# EAGLE library part EPM1270F256I5N (library EPM1270_BGA)
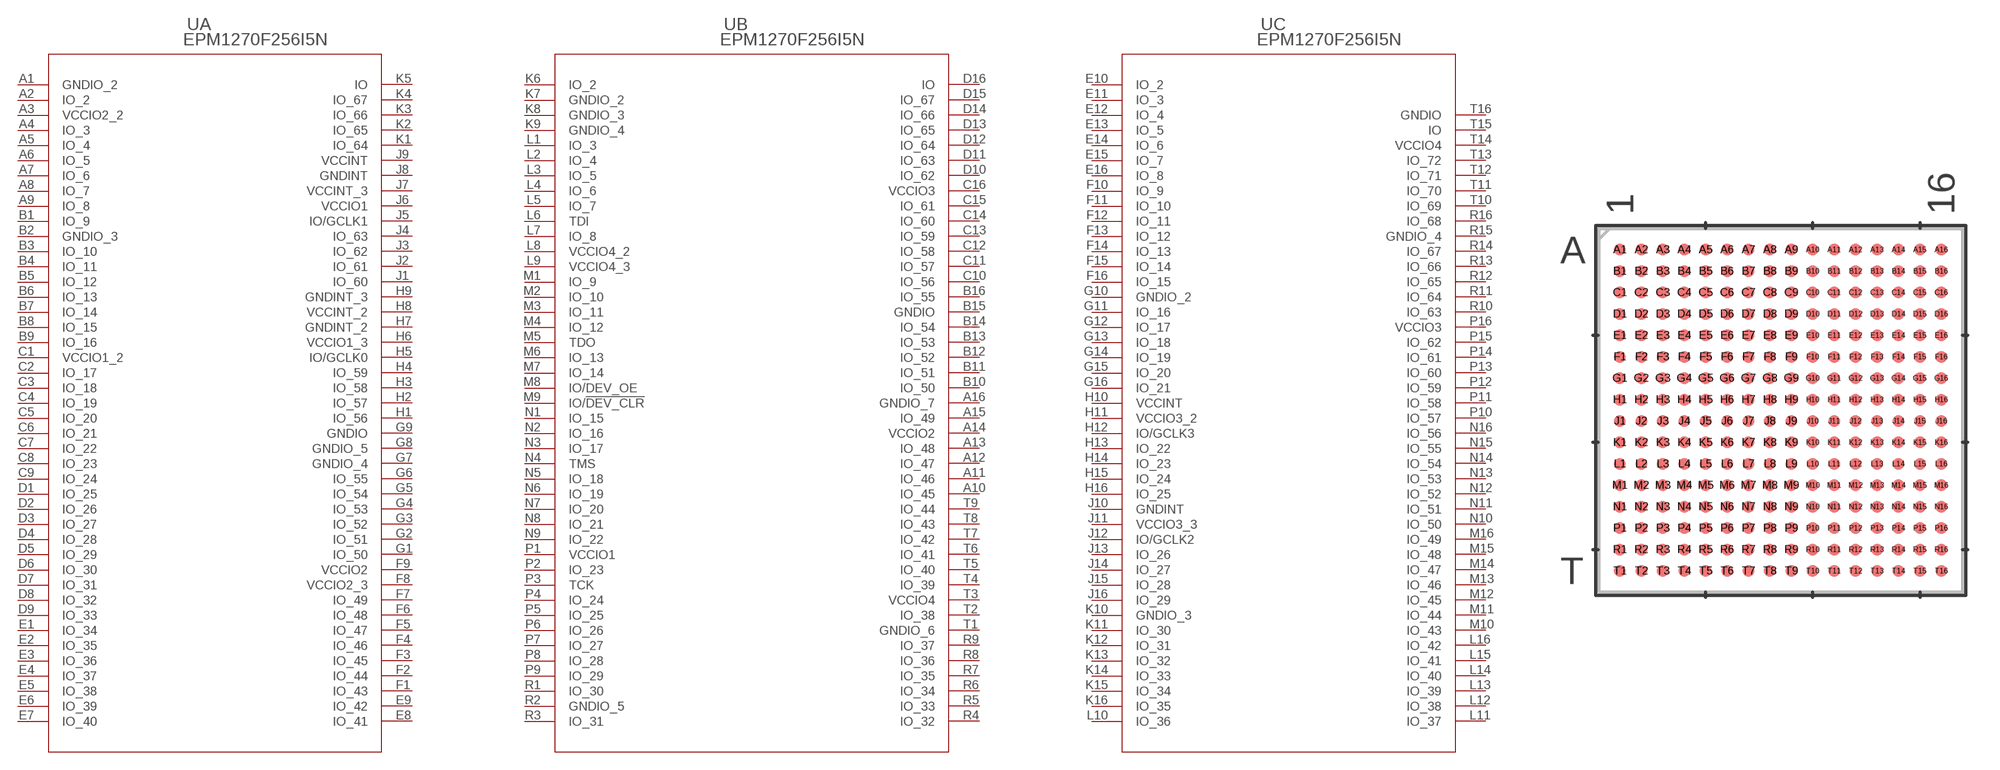
[diagram p0: symbol with the pads of 256-FBGA_ALR; footprint 256-FBGA_ALR]

Designator prefix U; gates A=EPM1270F256I5N_A B=EPM1270F256I5N_B C=EPM1270F256I5N_C

## EPM1270F256I5N (COPYRIGHT: Copyright (C) 2022 Ultra Librarian. All rights reserved.; MANUFACTURER_PART_NUMBER: EPM1270F256I5N; MFR_NAME: Intel)  [256-FBGA_ALR]
A1  A:GNDIO_2  pas
A2  A:IO_2  pas
A3  A:VCCIO2_2  pas
A4  A:IO_3  pas
A5  A:IO_4  pas
A6  A:IO_5  pas
A7  A:IO_6  pas
A8  A:IO_7  pas
A9  A:IO_8  pas
A10  B:IO_45  pas
A11  B:IO_46  pas
A12  B:IO_47  pas
A13  B:IO_48  pas
A14  B:VCCIO2  pas
A15  B:IO_49  pas
A16  B:GNDIO_7  pas
B1  A:IO_9  pas
B2  A:GNDIO_3  pas
B3  A:IO_10  pas
B4  A:IO_11  pas
B5  A:IO_12  pas
B6  A:IO_13  pas
B7  A:IO_14  pas
B8  A:IO_15  pas
B9  A:IO_16  pas
B10  B:IO_50  pas
B11  B:IO_51  pas
B12  B:IO_52  pas
B13  B:IO_53  pas
B14  B:IO_54  pas
B15  B:GNDIO  pas
B16  B:IO_55  pas
C1  A:VCCIO1_2  pas
C2  A:IO_17  pas
C3  A:IO_18  pas
C4  A:IO_19  pas
C5  A:IO_20  pas
C6  A:IO_21  pas
C7  A:IO_22  pas
C8  A:IO_23  pas
C9  A:IO_24  pas
C10  B:IO_56  pas
C11  B:IO_57  pas
C12  B:IO_58  pas
C13  B:IO_59  pas
C14  B:IO_60  pas
C15  B:IO_61  pas
C16  B:VCCIO3  pas
D1  A:IO_25  pas
D2  A:IO_26  pas
D3  A:IO_27  pas
D4  A:IO_28  pas
D5  A:IO_29  pas
D6  A:IO_30  pas
D7  A:IO_31  pas
D8  A:IO_32  pas
D9  A:IO_33  pas
D10  B:IO_62  pas
D11  B:IO_63  pas
D12  B:IO_64  pas
D13  B:IO_65  pas
D14  B:IO_66  pas
D15  B:IO_67  pas
D16  B:IO  pas
E1  A:IO_34  pas
E2  A:IO_35  pas
E3  A:IO_36  pas
E4  A:IO_37  pas
E5  A:IO_38  pas
E6  A:IO_39  pas
E7  A:IO_40  pas
E8  A:IO_41  pas
E9  A:IO_42  pas
E10  C:IO_2  pas
E11  C:IO_3  pas
E12  C:IO_4  pas
E13  C:IO_5  pas
E14  C:IO_6  pas
E15  C:IO_7  pas
E16  C:IO_8  pas
F1  A:IO_43  pas
F2  A:IO_44  pas
F3  A:IO_45  pas
F4  A:IO_46  pas
F5  A:IO_47  pas
F6  A:IO_48  pas
F7  A:IO_49  pas
F8  A:VCCIO2_3  pas
F9  A:VCCIO2  pas
F10  C:IO_9  pas
F11  C:IO_10  pas
F12  C:IO_11  pas
F13  C:IO_12  pas
F14  C:IO_13  pas
F15  C:IO_14  pas
F16  C:IO_15  pas
G1  A:IO_50  pas
G2  A:IO_51  pas
G3  A:IO_52  pas
G4  A:IO_53  pas
G5  A:IO_54  pas
G6  A:IO_55  pas
G7  A:GNDIO_4  pas
G8  A:GNDIO_5  pas
G9  A:GNDIO  pas
G10  C:GNDIO_2  pas
G11  C:IO_16  pas
G12  C:IO_17  pas
G13  C:IO_18  pas
G14  C:IO_19  pas
G15  C:IO_20  pas
G16  C:IO_21  pas
H1  A:IO_56  pas
H2  A:IO_57  pas
H3  A:IO_58  pas
H4  A:IO_59  pas
H5  A:IO/GCLK0  pas
H6  A:VCCIO1_3  pas
H7  A:GNDINT_2  pas
H8  A:VCCINT_2  pas
H9  A:GNDINT_3  pas
H10  C:VCCINT  pas
H11  C:VCCIO3_2  pas
H12  C:IO/GCLK3  pas
H13  C:IO_22  pas
H14  C:IO_23  pas
H15  C:IO_24  pas
H16  C:IO_25  pas
J1  A:IO_60  pas
J2  A:IO_61  pas
J3  A:IO_62  pas
J4  A:IO_63  pas
J5  A:IO/GCLK1  pas
J6  A:VCCIO1  pas
J7  A:VCCINT_3  pas
J8  A:GNDINT  pas
J9  A:VCCINT  pas
J10  C:GNDINT  pas
J11  C:VCCIO3_3  pas
J12  C:IO/GCLK2  pas
J13  C:IO_26  pas
J14  C:IO_27  pas
J15  C:IO_28  pas
J16  C:IO_29  pas
K1  A:IO_64  pas
K2  A:IO_65  pas
K3  A:IO_66  pas
K4  A:IO_67  pas
K5  A:IO  pas
K6  B:IO_2  pas
K7  B:GNDIO_2  pas
K8  B:GNDIO_3  pas
K9  B:GNDIO_4  pas
K10  C:GNDIO_3  pas
K11  C:IO_30  pas
K12  C:IO_31  pas
K13  C:IO_32  pas
K14  C:IO_33  pas
K15  C:IO_34  pas
K16  C:IO_35  pas
L1  B:IO_3  pas
L2  B:IO_4  pas
L3  B:IO_5  pas
L4  B:IO_6  pas
L5  B:IO_7  pas
L6  B:TDI  pas
L7  B:IO_8  pas
L8  B:VCCIO4_2  pas
L9  B:VCCIO4_3  pas
L10  C:IO_36  pas
L11  C:IO_37  pas
L12  C:IO_38  pas
L13  C:IO_39  pas
L14  C:IO_40  pas
L15  C:IO_41  pas
L16  C:IO_42  pas
M1  B:IO_9  pas
M2  B:IO_10  pas
M3  B:IO_11  pas
M4  B:IO_12  pas
M5  B:TDO  pas
M6  B:IO_13  pas
M7  B:IO_14  pas
M8  B:IO/DEV_OE  pas
M9  B:IO/!DEV_CLR  pas
M10  C:IO_43  pas
M11  C:IO_44  pas
M12  C:IO_45  pas
M13  C:IO_46  pas
M14  C:IO_47  pas
M15  C:IO_48  pas
M16  C:IO_49  pas
N1  B:IO_15  pas
N2  B:IO_16  pas
N3  B:IO_17  pas
N4  B:TMS  pas
N5  B:IO_18  pas
N6  B:IO_19  pas
N7  B:IO_20  pas
N8  B:IO_21  pas
N9  B:IO_22  pas
N10  C:IO_50  pas
N11  C:IO_51  pas
N12  C:IO_52  pas
N13  C:IO_53  pas
N14  C:IO_54  pas
N15  C:IO_55  pas
N16  C:IO_56  pas
P1  B:VCCIO1  pas
P2  B:IO_23  pas
P3  B:TCK  pas
P4  B:IO_24  pas
P5  B:IO_25  pas
P6  B:IO_26  pas
P7  B:IO_27  pas
P8  B:IO_28  pas
P9  B:IO_29  pas
P10  C:IO_57  pas
P11  C:IO_58  pas
P12  C:IO_59  pas
P13  C:IO_60  pas
P14  C:IO_61  pas
P15  C:IO_62  pas
P16  C:VCCIO3  pas
R1  B:IO_30  pas
R2  B:GNDIO_5  pas
R3  B:IO_31  pas
R4  B:IO_32  pas
R5  B:IO_33  pas
R6  B:IO_34  pas
R7  B:IO_35  pas
R8  B:IO_36  pas
R9  B:IO_37  pas
R10  C:IO_63  pas
R11  C:IO_64  pas
R12  C:IO_65  pas
R13  C:IO_66  pas
R14  C:IO_67  pas
R15  C:GNDIO_4  pas
R16  C:IO_68  pas
T1  B:GNDIO_6  pas
T2  B:IO_38  pas
T3  B:VCCIO4  pas
T4  B:IO_39  pas
T5  B:IO_40  pas
T6  B:IO_41  pas
T7  B:IO_42  pas
T8  B:IO_43  pas
T9  B:IO_44  pas
T10  C:IO_69  pas
T11  C:IO_70  pas
T12  C:IO_71  pas
T13  C:IO_72  pas
T14  C:VCCIO4  pas
T15  C:IO  pas
T16  C:GNDIO  pas

## Footprint 256-FBGA_ALR (pad centres in mm)
smd 0.559 x 0.559: A1 -7.5,7.5; A2 -6.5,7.5; A3 -5.5,7.5; A4 -4.5,7.5; A5 -3.5,7.5; A6 -2.5,7.5; A7 -1.5,7.5; A8 -0.5,7.5; A9 0.5,7.5; A10 1.5,7.5; A11 2.5,7.5; A12 3.5,7.5; A13 4.5,7.5; A14 5.5,7.5; A15 6.5,7.5; A16 7.5,7.5; B1 -7.5,6.5; B2 -6.5,6.5; B3 -5.5,6.5; B4 -4.5,6.5; B5 -3.5,6.5; B6 -2.5,6.5; B7 -1.5,6.5; B8 -0.5,6.5; B9 0.5,6.5; B10 1.5,6.5; B11 2.5,6.5; B12 3.5,6.5; B13 4.5,6.5; B14 5.5,6.5; B15 6.5,6.5; B16 7.5,6.5; C1 -7.5,5.5; C2 -6.5,5.5; C3 -5.5,5.5; C4 -4.5,5.5; C5 -3.5,5.5; C6 -2.5,5.5; C7 -1.5,5.5; C8 -0.5,5.5; C9 0.5,5.5; C10 1.5,5.5; C11 2.5,5.5; C12 3.5,5.5; C13 4.5,5.5; C14 5.5,5.5; C15 6.5,5.5; C16 7.5,5.5; D1 -7.5,4.5; D2 -6.5,4.5; D3 -5.5,4.5; D4 -4.5,4.5; D5 -3.5,4.5; D6 -2.5,4.5; D7 -1.5,4.5; D8 -0.5,4.5; D9 0.5,4.5; D10 1.5,4.5; D11 2.5,4.5; D12 3.5,4.5; D13 4.5,4.5; D14 5.5,4.5; D15 6.5,4.5; D16 7.5,4.5; E1 -7.5,3.5; E2 -6.5,3.5; E3 -5.5,3.5; E4 -4.5,3.5; E5 -3.5,3.5; E6 -2.5,3.5; E7 -1.5,3.5; E8 -0.5,3.5; E9 0.5,3.5; E10 1.5,3.5; E11 2.5,3.5; E12 3.5,3.5; E13 4.5,3.5; E14 5.5,3.5; E15 6.5,3.5; E16 7.5,3.5; F1 -7.5,2.5; F2 -6.5,2.5; F3 -5.5,2.5; F4 -4.5,2.5; F5 -3.5,2.5; F6 -2.5,2.5; F7 -1.5,2.5; F8 -0.5,2.5; F9 0.5,2.5; F10 1.5,2.5; F11 2.5,2.5; F12 3.5,2.5; F13 4.5,2.5; F14 5.5,2.5; F15 6.5,2.5; F16 7.5,2.5; G1 -7.5,1.5; G2 -6.5,1.5; G3 -5.5,1.5; G4 -4.5,1.5; G5 -3.5,1.5; G6 -2.5,1.5; G7 -1.5,1.5; G8 -0.5,1.5; G9 0.5,1.5; G10 1.5,1.5; G11 2.5,1.5; G12 3.5,1.5; G13 4.5,1.5; G14 5.5,1.5; G15 6.5,1.5; G16 7.5,1.5; H1 -7.5,0.5; H2 -6.5,0.5; H3 -5.5,0.5; H4 -4.5,0.5; H5 -3.5,0.5; H6 -2.5,0.5; H7 -1.5,0.5; H8 -0.5,0.5; H9 0.5,0.5; H10 1.5,0.5; H11 2.5,0.5; H12 3.5,0.5; H13 4.5,0.5; H14 5.5,0.5; H15 6.5,0.5; H16 7.5,0.5; J1 -7.5,-0.5; J2 -6.5,-0.5; J3 -5.5,-0.5; J4 -4.5,-0.5; J5 -3.5,-0.5; J6 -2.5,-0.5; J7 -1.5,-0.5; J8 -0.5,-0.5; J9 0.5,-0.5; J10 1.5,-0.5; J11 2.5,-0.5; J12 3.5,-0.5; J13 4.5,-0.5; J14 5.5,-0.5; J15 6.5,-0.5; J16 7.5,-0.5; K1 -7.5,-1.5; K2 -6.5,-1.5; K3 -5.5,-1.5; K4 -4.5,-1.5; K5 -3.5,-1.5; K6 -2.5,-1.5; K7 -1.5,-1.5; K8 -0.5,-1.5; K9 0.5,-1.5; K10 1.5,-1.5; K11 2.5,-1.5; K12 3.5,-1.5; K13 4.5,-1.5; K14 5.5,-1.5; K15 6.5,-1.5; K16 7.5,-1.5; L1 -7.5,-2.5; L2 -6.5,-2.5; L3 -5.5,-2.5; L4 -4.5,-2.5; L5 -3.5,-2.5; L6 -2.5,-2.5; L7 -1.5,-2.5; L8 -0.5,-2.5; L9 0.5,-2.5; L10 1.5,-2.5; L11 2.5,-2.5; L12 3.5,-2.5; L13 4.5,-2.5; L14 5.5,-2.5; L15 6.5,-2.5; L16 7.5,-2.5; M1 -7.5,-3.5; M2 -6.5,-3.5; M3 -5.5,-3.5; M4 -4.5,-3.5; M5 -3.5,-3.5; M6 -2.5,-3.5; M7 -1.5,-3.5; M8 -0.5,-3.5; M9 0.5,-3.5; M10 1.5,-3.5; M11 2.5,-3.5; M12 3.5,-3.5; M13 4.5,-3.5; M14 5.5,-3.5; M15 6.5,-3.5; M16 7.5,-3.5; N1 -7.5,-4.5; N2 -6.5,-4.5; N3 -5.5,-4.5; N4 -4.5,-4.5; N5 -3.5,-4.5; N6 -2.5,-4.5; N7 -1.5,-4.5; N8 -0.5,-4.5; N9 0.5,-4.5; N10 1.5,-4.5; N11 2.5,-4.5; N12 3.5,-4.5; N13 4.5,-4.5; N14 5.5,-4.5; N15 6.5,-4.5; N16 7.5,-4.5; P1 -7.5,-5.5; P2 -6.5,-5.5; P3 -5.5,-5.5; P4 -4.5,-5.5; P5 -3.5,-5.5; P6 -2.5,-5.5; P7 -1.5,-5.5; P8 -0.5,-5.5; P9 0.5,-5.5; P10 1.5,-5.5; P11 2.5,-5.5; P12 3.5,-5.5; P13 4.5,-5.5; P14 5.5,-5.5; P15 6.5,-5.5; P16 7.5,-5.5; R1 -7.5,-6.5; R2 -6.5,-6.5; R3 -5.5,-6.5; R4 -4.5,-6.5; R5 -3.5,-6.5; R6 -2.5,-6.5; R7 -1.5,-6.5; R8 -0.5,-6.5; R9 0.5,-6.5; R10 1.5,-6.5; R11 2.5,-6.5; R12 3.5,-6.5; R13 4.5,-6.5; R14 5.5,-6.5; R15 6.5,-6.5; R16 7.5,-6.5; T1 -7.5,-7.5; T2 -6.5,-7.5; T3 -5.5,-7.5; T4 -4.5,-7.5; T5 -3.5,-7.5; T6 -2.5,-7.5; T7 -1.5,-7.5; T8 -0.5,-7.5; T9 0.5,-7.5; T10 1.5,-7.5; T11 2.5,-7.5; T12 3.5,-7.5; T13 4.5,-7.5; T14 5.5,-7.5; T15 6.5,-7.5; T16 7.5,-7.5